# Altium schematic symbol library SCH - CONNECTORS - Rosenberger 59S20X-400T5-Y.Schlib: 1 symbol
Pins are listed as number, name and electrical type; pins without a type are passive.

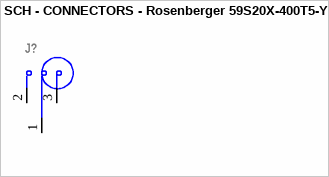
[diagram p0: symbol SCH - CONNECTORS - Rosenberger 59S20X-400T5-Y]

## SCH - CONNECTORS - Rosenberger 59S20X-400T5-Y
designator J?
Manufacturer: Rosenberger; OrderNo: 59S20X-40ML5-I; RoHS_Green: 2
footprint MB172 (FAKRA Rosenberger)
pins: 1 I, 2 GND, 3 GND